# EAGLE library part ТрС-ЛС5 (library others)
ЕСКФ.671152.002 ТУ Трансформаторная сборка для гальванической развязки в локальных сетях Ethernet 100BASE-T. Интервал рабочих температур – минус 60 ¸ +85°С. Наименование параметра, единица измерения Норма параметра Не менее Типовое Не более Индуктивность обмоток трансформаторов на частоте 100 кГц при токе подмагничивания 8 мА, мкГн 300 350 500 Сопротивление обмоток постоянному току, Ом Не нормируется 1,0 1,5 Межобмоточная емкость на частоте 100 кГц, пФ Не нормируется Не нормируется 50 Коэффициент трансформации на частоте 1 МГц 0,9 1 1,1 Вносимые потери на частоте 30 МГц, дБ - - Минус 1,1 Вносимые потери на частоте 60 МГц, дБ - - Минус 1,1 Вносимые потери на частоте 100 МГц, дБ - - Минус 5,0 Ослабление связи между каналами на частоте 30 МГц, дБ Минус 45 - - Ослабление связи между каналами на частоте 60 МГц, дБ Минус 40 - - Ослабление связи между каналами на частоте 100 МГц, дБ Минус 35 - - Сопротивление изоляции трансформаторных сборок при испытательном напряжении 250 В, МОм 100 - - Пример обозначения при заказе и в конструкторской документации: Трансформаторная сборка ТрС-ЛС5 ЕСКФ.671152.002 ТУ Производитель: «Завод Магнетон», г. Санкт-Петербург. Технические условия: ЕСКФ.671152.002 ТУ
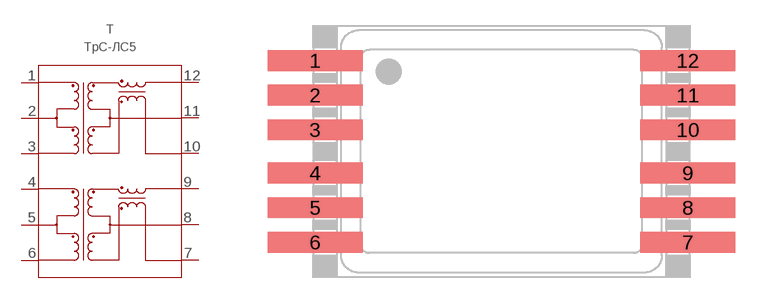
[diagram p5: symbol with the pads of ТрС-ЛС5(6); footprint ТрС-ЛС5(6)]

Designator prefix T

## ТрС-ЛС5  [ТрС-ЛС5(6)]
1  1
2  2
3  3
4  4
5  5
6  6
7  7
8  8
9  9
10  10
11  11
12  12

## Footprint ТрС-ЛС5(6) (pad centres in mm)
smd 5.5 x 1.2: 1 -10.75,5.25; 2 -10.75,3.25; 3 -10.75,1.25; 4 -10.75,-1.25; 5 -10.75,-3.25; 6 -10.75,-5.25; 7 10.75,-5.25; 8 10.75,-3.25; 9 10.75,-1.25; 10 10.75,1.25; 11 10.75,3.25; 12 10.75,5.25